# Altium integrated library Linear Technology Power Management uModule Regulators.IntLib: 166 symbols (part 10 of 67)
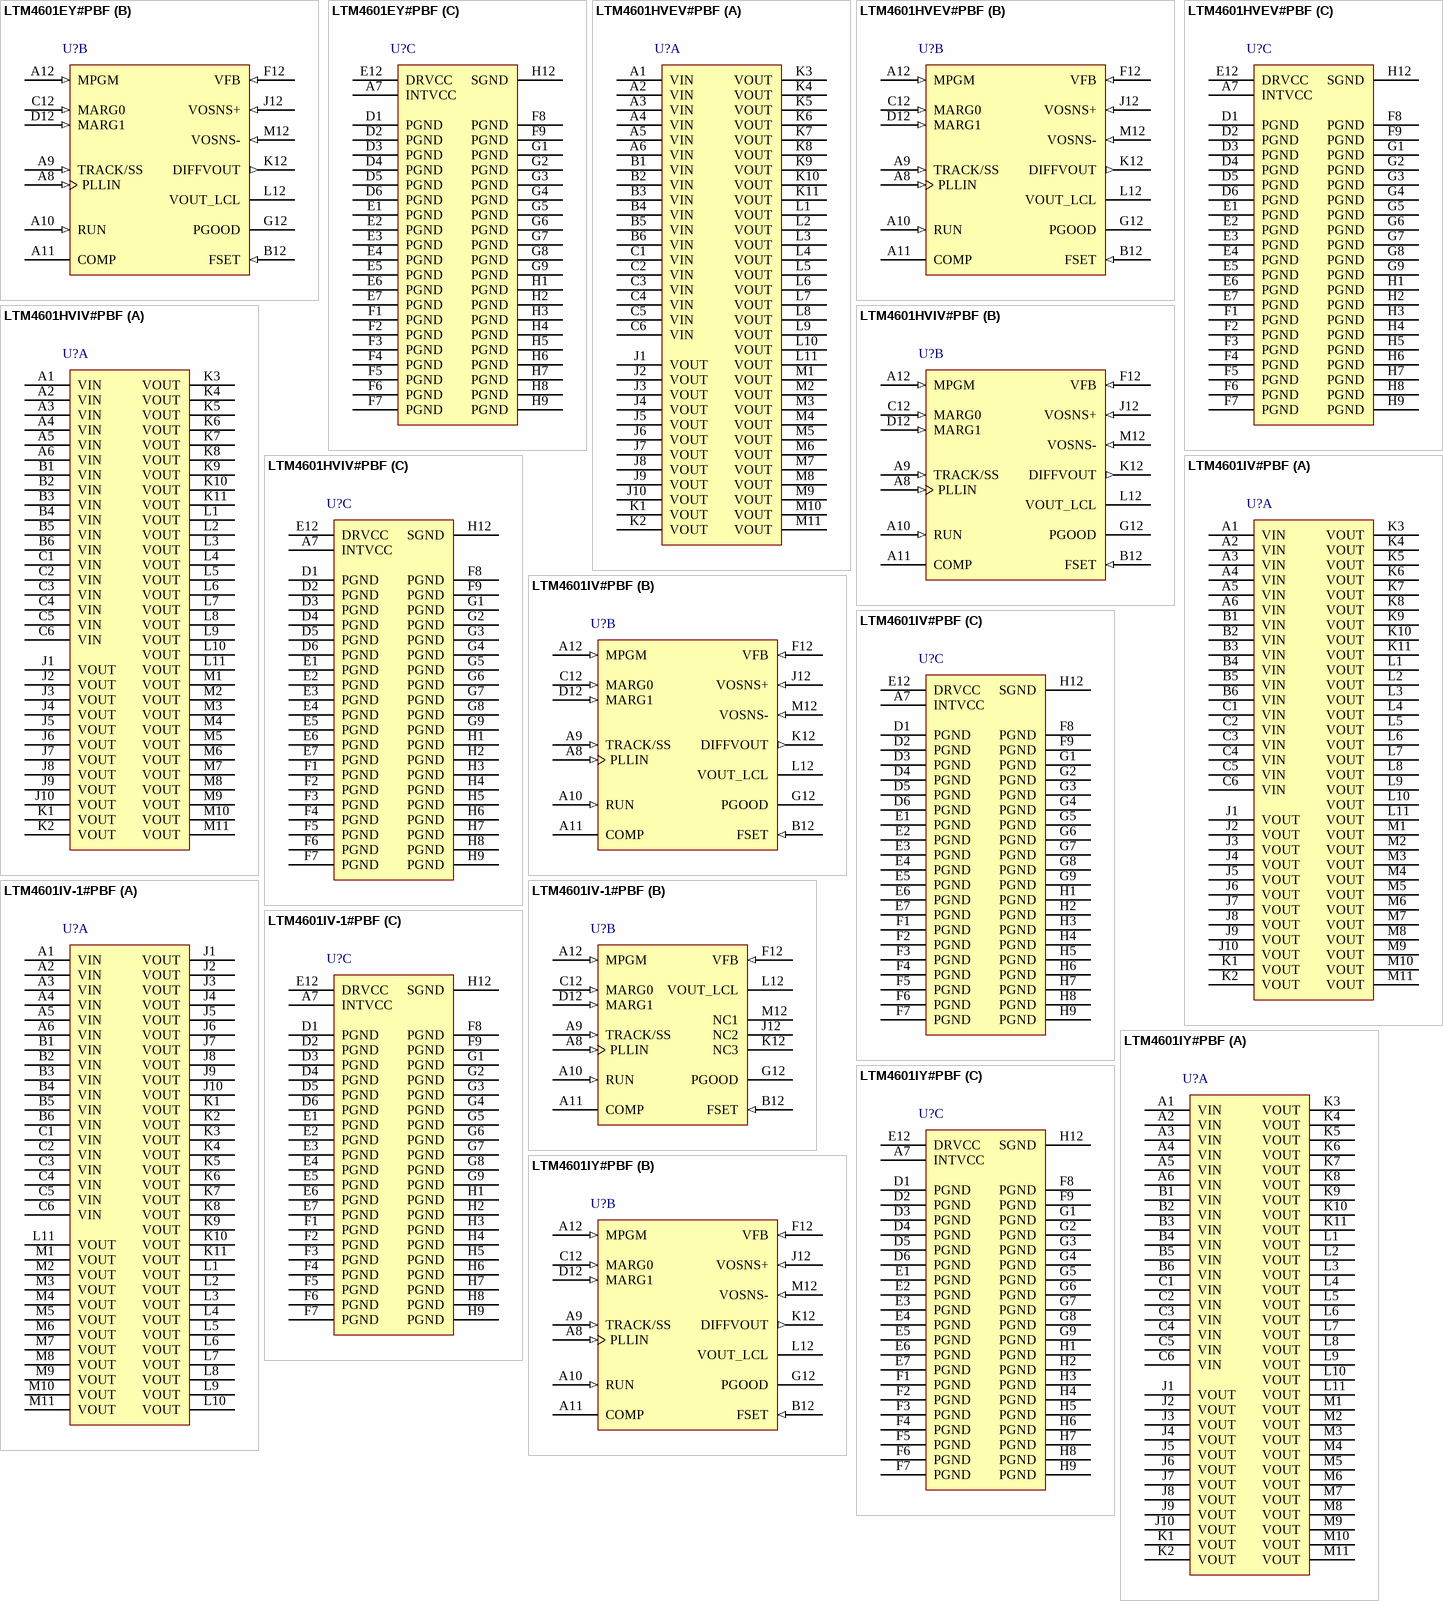
[diagram p36: symbols LTM4601EY#PBF to LTM4601IY#PBF]

## LTM4601EY#PBF
designator U?
12 A uModule Regulators with PLL, Output Tracking and Margining, 118-pin BGA, -40 to 85 degC, Pb-Free, Tray; Manufacturer: Linear Technology; PartNumber: LTM4601EY#PBF; Extended Temp: E, I; Frequency Sync Range: 600kHz - 1.1MHz; Ishutdown(uA): 22; Isupply(mA): 3.8; Number of Outputs: 1; Output Current(A): 12; Synchronous: yes; Topology: Buck; Vin Max(V): 20; Vin Min(V): 4.5; Vout Max(V): 5; Vout Min(V): 0.6; DatasheetVersion: Rev. C; PackageVersion: Rev. B, 01/2013; PackageReference: BGA-118; PackageDescription: 118-Ball BGA, Body 15 x 15 mm, Pitch 1.27 mm; Supplier 1: Digi-Key; Supplier Part Number 1: LTM4601EY#PBF-ND; Supplier 2: Farnell; Supplier Part Number 2: 2115878; Supplier 3: Newark; Supplier Part Number 3: 87T1006; Packing: Tray; RoHS: TRUE; Switch Current(A): 12; Tracking: yes; Mounting Technology: Surface Mount; Code_JEDEC: MS-028; ComponentLink1Description: Manufacturer URL; ComponentLink1URL: http://www.linear.com/; ComponentLink2Description: Datasheet; ComponentLink2URL: http://cds.linear.com/docs/en/datasheet/4601fc.pdf; ComponentLink3Description: Package Specification; ComponentLink3URL: http://cds.linear.com/docs/en/packaging/05081903_B_bga118.pdf
footprint LT-BGA-118-15000X15000X3420 (BGA, 118-Balls, Body 15x15mm, Pitch 1.27mm)
part A pins: A1 VIN (power) "Power Input Pins. Apply input voltage between these pins and PGND pins. Recommend placing input decoupling capacitance directly between VIN pins and PGND pins.", A2 VIN (power) "Power Input Pins. Apply input voltage between these pins and PGND pins. Recommend placing input decoupling capacitance directly between VIN pins and PGND pins.", A3 VIN (power) "Power Input Pins. Apply input voltage between these pins and PGND pins. Recommend placing input decoupling capacitance directly between VIN pins and PGND pins.", A4 VIN (power) "Power Input Pins. Apply input voltage between these pins and PGND pins. Recommend placing input decoupling capacitance directly between VIN pins and PGND pins.", A5 VIN (power) "Power Input Pins. Apply input voltage between these pins and PGND pins. Recommend placing input decoupling capacitance directly between VIN pins and PGND pins.", A6 VIN (power) "Power Input Pins. Apply input voltage between these pins and PGND pins. Recommend placing input decoupling capacitance directly between VIN pins and PGND pins.", B1 VIN (power) "Power Input Pins. Apply input voltage between these pins and PGND pins. Recommend placing input decoupling capacitance directly between VIN pins and PGND pins.", B2 VIN (power) "Power Input Pins. Apply input voltage between these pins and PGND pins. Recommend placing input decoupling capacitance directly between VIN pins and PGND pins.", B3 VIN (power) "Power Input Pins. Apply input voltage between these pins and PGND pins. Recommend placing input decoupling capacitance directly between VIN pins and PGND pins.", B4 VIN (power) "Power Input Pins. Apply input voltage between these pins and PGND pins. Recommend placing input decoupling capacitance directly between VIN pins and PGND pins.", B5 VIN (power) "Power Input Pins. Apply input voltage between these pins and PGND pins. Recommend placing input decoupling capacitance directly between VIN pins and PGND pins.", B6 VIN (power) "Power Input Pins. Apply input voltage between these pins and PGND pins. Recommend placing input decoupling capacitance directly between VIN pins and PGND pins.", C1 VIN (power) "Power Input Pins. Apply input voltage between these pins and PGND pins. Recommend placing input decoupling capacitance directly between VIN pins and PGND pins.", C2 VIN (power) "Power Input Pins. Apply input voltage between these pins and PGND pins. Recommend placing input decoupling capacitance directly between VIN pins and PGND pins.", C3 VIN (power) "Power Input Pins. Apply input voltage between these pins and PGND pins. Recommend placing input decoupling capacitance directly between VIN pins and PGND pins.", C4 VIN (power) "Power Input Pins. Apply input voltage between these pins and PGND pins. Recommend placing input decoupling capacitance directly between VIN pins and PGND pins.", C5 VIN (power) "Power Input Pins. Apply input voltage between these pins and PGND pins. Recommend placing input decoupling capacitance directly between VIN pins and PGND pins.", C6 VIN (power) "Power Input Pins. Apply input voltage between these pins and PGND pins. Recommend placing input decoupling capacitance directly between VIN pins and PGND pins.", J1 VOUT (power) "Power Output Pins. Apply output load between these pins and PGND pins. Recommend placing output decoupling capacitance directly between these pins and PGND pins. See Figure 15.", J2 VOUT (power) "Power Output Pins. Apply output load between these pins and PGND pins. Recommend placing output decoupling capacitance directly between these pins and PGND pins. See Figure 15.", J3 VOUT (power) "Power Output Pins. Apply output load between these pins and PGND pins. Recommend placing output decoupling capacitance directly between these pins and PGND pins. See Figure 15.", J4 VOUT (power) "Power Output Pins. Apply output load between these pins and PGND pins. Recommend placing output decoupling capacitance directly between these pins and PGND pins. See Figure 15.", J5 VOUT (power) "Power Output Pins. Apply output load between these pins and PGND pins. Recommend placing output decoupling capacitance directly between these pins and PGND pins. See Figure 15.", J6 VOUT (power) "Power Output Pins. Apply output load between these pins and PGND pins. Recommend placing output decoupling capacitance directly between these pins and PGND pins. See Figure 15.", J7 VOUT (power) "Power Output Pins. Apply output load between these pins and PGND pins. Recommend placing output decoupling capacitance directly between these pins and PGND pins. See Figure 15.", J8 VOUT (power) "Power Output Pins. Apply output load between these pins and PGND pins. Recommend placing output decoupling capacitance directly between these pins and PGND pins. See Figure 15.", J9 VOUT (power) "Power Output Pins. Apply output load between these pins and PGND pins. Recommend placing output decoupling capacitance directly between these pins and PGND pins. See Figure 15.", J10 VOUT (power) "Power Output Pins. Apply output load between these pins and PGND pins. Recommend placing output decoupling capacitance directly between these pins and PGND pins. See Figure 15.", K1 VOUT (power) "Power Output Pins. Apply output load between these pins and PGND pins. Recommend placing output decoupling capacitance directly between these pins and PGND pins. See Figure 15.", K2 VOUT (power) "Power Output Pins. Apply output load between these pins and PGND pins. Recommend placing output decoupling capacitance directly between these pins and PGND pins. See Figure 15.", K3 VOUT (power) "Power Output Pins. Apply output load between these pins and PGND pins. Recommend placing output decoupling capacitance directly between these pins and PGND pins. See Figure 15.", K4 VOUT (power) "Power Output Pins. Apply output load between these pins and PGND pins. Recommend placing output decoupling capacitance directly between these pins and PGND pins. See Figure 15.", K5 VOUT (power) "Power Output Pins. Apply output load between these pins and PGND pins. Recommend placing output decoupling capacitance directly between these pins and PGND pins. See Figure 15.", K6 VOUT (power) "Power Output Pins. Apply output load between these pins and PGND pins. Recommend placing output decoupling capacitance directly between these pins and PGND pins. See Figure 15.", K7 VOUT (power) "Power Output Pins. Apply output load between these pins and PGND pins. Recommend placing output decoupling capacitance directly between these pins and PGND pins. See Figure 15.", K8 VOUT (power) "Power Output Pins. Apply output load between these pins and PGND pins. Recommend placing output decoupling capacitance directly between these pins and PGND pins. See Figure 15.", K9 VOUT (power) "Power Output Pins. Apply output load between these pins and PGND pins. Recommend placing output decoupling capacitance directly between these pins and PGND pins. See Figure 15.", K10 VOUT (power) "Power Output Pins. Apply output load between these pins and PGND pins. Recommend placing output decoupling capacitance directly between these pins and PGND pins. See Figure 15.", K11 VOUT (power) "Power Output Pins. Apply output load between these pins and PGND pins. Recommend placing output decoupling capacitance directly between these pins and PGND pins. See Figure 15.", L1 VOUT (power) "Power Output Pins. Apply output load between these pins and PGND pins. Recommend placing output decoupling capacitance directly between these pins and PGND pins. See Figure 15.", L2 VOUT (power) "Power Output Pins. Apply output load between these pins and PGND pins. Recommend placing output decoupling capacitance directly between these pins and PGND pins. See Figure 15.", L3 VOUT (power) "Power Output Pins. Apply output load between these pins and PGND pins. Recommend placing output decoupling capacitance directly between these pins and PGND pins. See Figure 15.", L4 VOUT (power) "Power Output Pins. Apply output load between these pins and PGND pins. Recommend placing output decoupling capacitance directly between these pins and PGND pins. See Figure 15.", L5 VOUT (power) "Power Output Pins. Apply output load between these pins and PGND pins. Recommend placing output decoupling capacitance directly between these pins and PGND pins. See Figure 15.", L6 VOUT (power) "Power Output Pins. Apply output load between these pins and PGND pins. Recommend placing output decoupling capacitance directly between these pins and PGND pins. See Figure 15.", L7 VOUT (power) "Power Output Pins. Apply output load between these pins and PGND pins. Recommend placing output decoupling capacitance directly between these pins and PGND pins. See Figure 15.", L8 VOUT (power) "Power Output Pins. Apply output load between these pins and PGND pins. Recommend placing output decoupling capacitance directly between these pins and PGND pins. See Figure 15.", L9 VOUT (power) "Power Output Pins. Apply output load between these pins and PGND pins. Recommend placing output decoupling capacitance directly between these pins and PGND pins. See Figure 15.", L10 VOUT (power) "Power Output Pins. Apply output load between these pins and PGND pins. Recommend placing output decoupling capacitance directly between these pins and PGND pins. See Figure 15.", L11 VOUT (power) "Power Output Pins. Apply output load between these pins and PGND pins. Recommend placing output decoupling capacitance directly between these pins and PGND pins. See Figure 15.", M1 VOUT (power) "Power Output Pins. Apply output load between these pins and PGND pins. Recommend placing output decoupling capacitance directly between these pins and PGND pins. See Figure 15.", M2 VOUT (power) "Power Output Pins. Apply output load between these pins and PGND pins. Recommend placing output decoupling capacitance directly between these pins and PGND pins. See Figure 15.", M3 VOUT (power) "Power Output Pins. Apply output load between these pins and PGND pins. Recommend placing output decoupling capacitance directly between these pins and PGND pins. See Figure 15.", M4 VOUT (power) "Power Output Pins. Apply output load between these pins and PGND pins. Recommend placing output decoupling capacitance directly between these pins and PGND pins. See Figure 15.", M5 VOUT (power) "Power Output Pins. Apply output load between these pins and PGND pins. Recommend placing output decoupling capacitance directly between these pins and PGND pins. See Figure 15.", M6 VOUT (power) "Power Output Pins. Apply output load between these pins and PGND pins. Recommend placing output decoupling capacitance directly between these pins and PGND pins. See Figure 15.", M7 VOUT (power) "Power Output Pins. Apply output load between these pins and PGND pins. Recommend placing output decoupling capacitance directly between these pins and PGND pins. See Figure 15.", M8 VOUT (power) "Power Output Pins. Apply output load between these pins and PGND pins. Recommend placing output decoupling capacitance directly between these pins and PGND pins. See Figure 15.", M9 VOUT (power) "Power Output Pins. Apply output load between these pins and PGND pins. Recommend placing output decoupling capacitance directly between these pins and PGND pins. See Figure 15.", M10 VOUT (power) "Power Output Pins. Apply output load between these pins and PGND pins. Recommend placing output decoupling capacitance directly between these pins and PGND pins. See Figure 15.", M11 VOUT (power) "Power Output Pins. Apply output load between these pins and PGND pins. Recommend placing output decoupling capacitance directly between these pins and PGND pins. See Figure 15."
part B pins: A8 PLLIN (in) "External Clock Synchronization Input to the Phase Detector. This pin is internally terminated to SGND with a 50k resistor. Apply a clock with a high level above 2V and below INTVCC. See the Applications Information section.", A9 TRACK/SS (in) "Output Voltage Tracking and Soft- Start Pin. When the module is configured as a master output, then a soft-start capacitor is placed from this pin to ground to control the master ramp rate. A soft-start capacitor can also be (See Datasheet)", A10 RUN (in) "Run Control Pin. A voltage above 1.9V will turn on the module, and when below 1V, will turn off the module. A programmable UVLO function can be accomplished by connecting to a resistor divider from VIN to ground. See Figure (See Datasheet)", A11 COMP "Current Control Threshold and Error Amplifier Compensation Point. The current comparator threshold increases with this control voltage. The voltage ranges from 0V to 2.4V with 0.7V corresponding to zero sense voltage (zero (See Datasheet)", A12 MPGM (in) "Programmable Margining Input. A resistor from this pin to ground sets a current that is equal to 1.18V/R. This current multiplied by 10kohm will equal a value in millivolts that is a percentage of the 0.6V reference voltage. (See Datasheet)", B12 FSET (in) "Frequency Set Internally to 850kHz. An external resistor can be placed from this pin to ground to increase frequency. See the Applications Information section for frequency adjustment.", C12 MARG0 (in) "This pin is the LSB logic input for the margining function. Together with the MARG1 pin it will determine if margin high, margin low or no margin state is applied. The pin has an internal pull-down resistor of 50k. See the (See Datasheet)", D12 MARG1 (in) "This pin is the MSB logic input for the margining function. Together with the MARG0 pin it will determine if margin high, margin low or no margin state is applied. The pin has an internal pull-down resistor of 50k. See the (See Datasheet)", F12 VFB (in) "The Negative Input of the Error Amplifier. Internally, this pin is connected to VOUT_LCL pin with a 60.4k precision resistor. Different output voltages can be programmed with an additional resistor between VFB and SGND pins. (See Datasheet)", G12 PGOOD (oc) "Output Voltage Power Good Indicator. Open-drain logic output that is pulled to ground when the output voltage is not within +/-10% of the regulation point, after a 25us power bad mask timer expires.", J12 VOSNS+ (in) "(+) Input to the Remote Sense Amplifier. This pin connects to the output remote sense point. The remote sense amplifier is used for VOUT =<3.3V. Tie to ground if not used.", K12 DIFFVOUT (out) "Output of the Remote Sense Amplifier. This pin connects to the VOUT_LCL pin. Leave floating if not used", L12 VOUT_LCL "VOUT connects directly to this pin to bypass the remote sense amplifier, or DIFFVOUT connects to this pin when the remote sense amplifier is used. VOUT_LCL can be connected to VOUT on the LTM4601-1, VOUT is internally (See Datasheet)", M12 VOSNS- (in) "(-) Input to the Remote Sense Amplifier. This pin connects to the ground remote sense point. The remote sense amplifier is used for VOUT =<3.3V. Tie to INTVCC if not used."
part C pins: A7 INTVCC (power) "This pin is for additional decoupling of the 5V internal regulator.", D1 PGND (power) "Power ground pins for both input and output returns.", D2 PGND (power) "Power ground pins for both input and output returns.", D3 PGND (power) "Power ground pins for both input and output returns.", D4 PGND (power) "Power ground pins for both input and output returns.", D5 PGND (power) "Power ground pins for both input and output returns.", D6 PGND (power) "Power ground pins for both input and output returns.", E1 PGND (power) "Power ground pins for both input and output returns.", E2 PGND (power) "Power ground pins for both input and output returns.", E3 PGND (power) "Power ground pins for both input and output returns.", E4 PGND (power) "Power ground pins for both input and output returns.", E5 PGND (power) "Power ground pins for both input and output returns.", E6 PGND (power) "Power ground pins for both input and output returns.", E7 PGND (power) "Power ground pins for both input and output returns.", E12 DRVCC (power) "This pin normally connects to INTVCC for powering the internal MOSFET drivers. This pin can be biased up to 6V from an external supply with about 50mA capability, or an external circuit as shown in Figure 16. This improves (See Datasheet)", F1 PGND (power) "Power ground pins for both input and output returns.", F2 PGND (power) "Power ground pins for both input and output returns.", F3 PGND (power) "Power ground pins for both input and output returns.", F4 PGND (power) "Power ground pins for both input and output returns.", F5 PGND (power) "Power ground pins for both input and output returns.", F6 PGND (power) "Power ground pins for both input and output returns.", F7 PGND (power) "Power ground pins for both input and output returns.", F8 PGND (power) "Power ground pins for both input and output returns.", F9 PGND (power) "Power ground pins for both input and output returns.", G1 PGND (power) "Power ground pins for both input and output returns.", G2 PGND (power) "Power ground pins for both input and output returns.", G3 PGND (power) "Power ground pins for both input and output returns.", G4 PGND (power) "Power ground pins for both input and output returns.", G5 PGND (power) "Power ground pins for both input and output returns.", G6 PGND (power) "Power ground pins for both input and output returns.", G7 PGND (power) "Power ground pins for both input and output returns.", G8 PGND (power) "Power ground pins for both input and output returns.", G9 PGND (power) "Power ground pins for both input and output returns.", H1 PGND (power) "Power ground pins for both input and output returns.", H2 PGND (power) "Power ground pins for both input and output returns.", H3 PGND (power) "Power ground pins for both input and output returns.", H4 PGND (power) "Power ground pins for both input and output returns.", H5 PGND (power) "Power ground pins for both input and output returns.", H6 PGND (power) "Power ground pins for both input and output returns.", H7 PGND (power) "Power ground pins for both input and output returns.", H8 PGND (power) "Power ground pins for both input and output returns.", H9 PGND (power) "Power ground pins for both input and output returns.", H12 SGND (power) "Signal Ground. This pin connects to PGND at output capacitor point. See Figure 15."

## LTM4601HVEV#PBF
designator U?
12 A, 28 VIN DC/DC uModule Regulator with PLL, Output Tracking and Margining, 118-pin LGA, -40 to 85 degC, Pb-Free, Tray; Manufacturer: Linear Technology; PartNumber: LTM4601HVEV#PBF; Extended Temp: E, I; Frequency Sync Range: 600kHz - 1.1MHz; Ishutdown(uA): 22; Isupply(mA): 3.8; Number of Outputs: 1; Output Current(A): 12; Synchronous: yes; Topology: Buck; Vin Max(V): 28; Vin Min(V): 4.5; Vout Max(V): 5; Vout Min(V): 0.6; DatasheetVersion: Rev. B; PackageVersion: Rev. B, 01/2013; PackageReference: LGA-118; PackageDescription: 118-Pin LGA, Body 15 x 15 mm, Pitch 1.27 mm; Supplier 1: Digi-Key; Supplier Part Number 1: LTM4601HVEV#PBF-ND; Supplier 2: Farnell; Supplier Part Number 2: 1710880; Supplier 3: Newark; Supplier Part Number 3: 57M0657; Packing: Tray; RoHS: TRUE; Switch Current(A): 12; Tracking: yes; Mounting Technology: Surface Mount; Code_JEDEC: MO-222; ComponentLink1Description: Manufacturer URL; ComponentLink1URL: http://www.linear.com/; ComponentLink2Description: Datasheet; ComponentLink2URL: http://cds.linear.com/docs/en/datasheet/4601hvfb.pdf; ComponentLink3Description: Package Specification; ComponentLink3URL: http://cds.linear.com/docs/en/packaging/05081801_B_lga118.pdf
footprint LT-LGA-118-15000X15000_V (LGA, 118-Leads, Body 15x15mm, 1.27mm)
part A pins: A1 VIN (power) "Power Input Pins. Apply input voltage between these pins and PGND pins. Recommend placing input decoupling capacitance directly between VIN pins and PGND pins.", A2 VIN (power) "Power Input Pins. Apply input voltage between these pins and PGND pins. Recommend placing input decoupling capacitance directly between VIN pins and PGND pins.", A3 VIN (power) "Power Input Pins. Apply input voltage between these pins and PGND pins. Recommend placing input decoupling capacitance directly between VIN pins and PGND pins.", A4 VIN (power) "Power Input Pins. Apply input voltage between these pins and PGND pins. Recommend placing input decoupling capacitance directly between VIN pins and PGND pins.", A5 VIN (power) "Power Input Pins. Apply input voltage between these pins and PGND pins. Recommend placing input decoupling capacitance directly between VIN pins and PGND pins.", A6 VIN (power) "Power Input Pins. Apply input voltage between these pins and PGND pins. Recommend placing input decoupling capacitance directly between VIN pins and PGND pins.", B1 VIN (power) "Power Input Pins. Apply input voltage between these pins and PGND pins. Recommend placing input decoupling capacitance directly between VIN pins and PGND pins.", B2 VIN (power) "Power Input Pins. Apply input voltage between these pins and PGND pins. Recommend placing input decoupling capacitance directly between VIN pins and PGND pins.", B3 VIN (power) "Power Input Pins. Apply input voltage between these pins and PGND pins. Recommend placing input decoupling capacitance directly between VIN pins and PGND pins.", B4 VIN (power) "Power Input Pins. Apply input voltage between these pins and PGND pins. Recommend placing input decoupling capacitance directly between VIN pins and PGND pins.", B5 VIN (power) "Power Input Pins. Apply input voltage between these pins and PGND pins. Recommend placing input decoupling capacitance directly between VIN pins and PGND pins.", B6 VIN (power) "Power Input Pins. Apply input voltage between these pins and PGND pins. Recommend placing input decoupling capacitance directly between VIN pins and PGND pins.", C1 VIN (power) "Power Input Pins. Apply input voltage between these pins and PGND pins. Recommend placing input decoupling capacitance directly between VIN pins and PGND pins.", C2 VIN (power) "Power Input Pins. Apply input voltage between these pins and PGND pins. Recommend placing input decoupling capacitance directly between VIN pins and PGND pins.", C3 VIN (power) "Power Input Pins. Apply input voltage between these pins and PGND pins. Recommend placing input decoupling capacitance directly between VIN pins and PGND pins.", C4 VIN (power) "Power Input Pins. Apply input voltage between these pins and PGND pins. Recommend placing input decoupling capacitance directly between VIN pins and PGND pins.", C5 VIN (power) "Power Input Pins. Apply input voltage between these pins and PGND pins. Recommend placing input decoupling capacitance directly between VIN pins and PGND pins.", C6 VIN (power) "Power Input Pins. Apply input voltage between these pins and PGND pins. Recommend placing input decoupling capacitance directly between VIN pins and PGND pins.", J1 VOUT (power) "Power Output Pins. Apply output load between these pins and PGND pins. Recommend placing output decoupling capacitance directly between these pins and PGND pins. See Figure 17.", J2 VOUT (power) "Power Output Pins. Apply output load between these pins and PGND pins. Recommend placing output decoupling capacitance directly between these pins and PGND pins. See Figure 17.", J3 VOUT (power) "Power Output Pins. Apply output load between these pins and PGND pins. Recommend placing output decoupling capacitance directly between these pins and PGND pins. See Figure 17.", J4 VOUT (power) "Power Output Pins. Apply output load between these pins and PGND pins. Recommend placing output decoupling capacitance directly between these pins and PGND pins. See Figure 17.", J5 VOUT (power) "Power Output Pins. Apply output load between these pins and PGND pins. Recommend placing output decoupling capacitance directly between these pins and PGND pins. See Figure 17.", J6 VOUT (power) "Power Output Pins. Apply output load between these pins and PGND pins. Recommend placing output decoupling capacitance directly between these pins and PGND pins. See Figure 17.", J7 VOUT (power) "Power Output Pins. Apply output load between these pins and PGND pins. Recommend placing output decoupling capacitance directly between these pins and PGND pins. See Figure 17.", J8 VOUT (power) "Power Output Pins. Apply output load between these pins and PGND pins. Recommend placing output decoupling capacitance directly between these pins and PGND pins. See Figure 17.", J9 VOUT (power) "Power Output Pins. Apply output load between these pins and PGND pins. Recommend placing output decoupling capacitance directly between these pins and PGND pins. See Figure 17.", J10 VOUT (power) "Power Output Pins. Apply output load between these pins and PGND pins. Recommend placing output decoupling capacitance directly between these pins and PGND pins. See Figure 17.", K1 VOUT (power) "Power Output Pins. Apply output load between these pins and PGND pins. Recommend placing output decoupling capacitance directly between these pins and PGND pins. See Figure 17.", K2 VOUT (power) "Power Output Pins. Apply output load between these pins and PGND pins. Recommend placing output decoupling capacitance directly between these pins and PGND pins. See Figure 17.", K3 VOUT (power) "Power Output Pins. Apply output load between these pins and PGND pins. Recommend placing output decoupling capacitance directly between these pins and PGND pins. See Figure 17.", K4 VOUT (power) "Power Output Pins. Apply output load between these pins and PGND pins. Recommend placing output decoupling capacitance directly between these pins and PGND pins. See Figure 17.", K5 VOUT (power) "Power Output Pins. Apply output load between these pins and PGND pins. Recommend placing output decoupling capacitance directly between these pins and PGND pins. See Figure 17.", K6 VOUT (power) "Power Output Pins. Apply output load between these pins and PGND pins. Recommend placing output decoupling capacitance directly between these pins and PGND pins. See Figure 17.", K7 VOUT (power) "Power Output Pins. Apply output load between these pins and PGND pins. Recommend placing output decoupling capacitance directly between these pins and PGND pins. See Figure 17.", K8 VOUT (power) "Power Output Pins. Apply output load between these pins and PGND pins. Recommend placing output decoupling capacitance directly between these pins and PGND pins. See Figure 17.", K9 VOUT (power) "Power Output Pins. Apply output load between these pins and PGND pins. Recommend placing output decoupling capacitance directly between these pins and PGND pins. See Figure 17.", K10 VOUT (power) "Power Output Pins. Apply output load between these pins and PGND pins. Recommend placing output decoupling capacitance directly between these pins and PGND pins. See Figure 17.", K11 VOUT (power) "Power Output Pins. Apply output load between these pins and PGND pins. Recommend placing output decoupling capacitance directly between these pins and PGND pins. See Figure 17.", L1 VOUT (power) "Power Output Pins. Apply output load between these pins and PGND pins. Recommend placing output decoupling capacitance directly between these pins and PGND pins. See Figure 17.", L2 VOUT (power) "Power Output Pins. Apply output load between these pins and PGND pins. Recommend placing output decoupling capacitance directly between these pins and PGND pins. See Figure 17.", L3 VOUT (power) "Power Output Pins. Apply output load between these pins and PGND pins. Recommend placing output decoupling capacitance directly between these pins and PGND pins. See Figure 17.", L4 VOUT (power) "Power Output Pins. Apply output load between these pins and PGND pins. Recommend placing output decoupling capacitance directly between these pins and PGND pins. See Figure 17.", L5 VOUT (power) "Power Output Pins. Apply output load between these pins and PGND pins. Recommend placing output decoupling capacitance directly between these pins and PGND pins. See Figure 17.", L6 VOUT (power) "Power Output Pins. Apply output load between these pins and PGND pins. Recommend placing output decoupling capacitance directly between these pins and PGND pins. See Figure 17.", L7 VOUT (power) "Power Output Pins. Apply output load between these pins and PGND pins. Recommend placing output decoupling capacitance directly between these pins and PGND pins. See Figure 17.", L8 VOUT (power) "Power Output Pins. Apply output load between these pins and PGND pins. Recommend placing output decoupling capacitance directly between these pins and PGND pins. See Figure 17.", L9 VOUT (power) "Power Output Pins. Apply output load between these pins and PGND pins. Recommend placing output decoupling capacitance directly between these pins and PGND pins. See Figure 17.", L10 VOUT (power) "Power Output Pins. Apply output load between these pins and PGND pins. Recommend placing output decoupling capacitance directly between these pins and PGND pins. See Figure 17.", L11 VOUT (power) "Power Output Pins. Apply output load between these pins and PGND pins. Recommend placing output decoupling capacitance directly between these pins and PGND pins. See Figure 17.", M1 VOUT (power) "Power Output Pins. Apply output load between these pins and PGND pins. Recommend placing output decoupling capacitance directly between these pins and PGND pins. See Figure 17.", M2 VOUT (power) "Power Output Pins. Apply output load between these pins and PGND pins. Recommend placing output decoupling capacitance directly between these pins and PGND pins. See Figure 17.", M3 VOUT (power) "Power Output Pins. Apply output load between these pins and PGND pins. Recommend placing output decoupling capacitance directly between these pins and PGND pins. See Figure 17.", M4 VOUT (power) "Power Output Pins. Apply output load between these pins and PGND pins. Recommend placing output decoupling capacitance directly between these pins and PGND pins. See Figure 17.", M5 VOUT (power) "Power Output Pins. Apply output load between these pins and PGND pins. Recommend placing output decoupling capacitance directly between these pins and PGND pins. See Figure 17.", M6 VOUT (power) "Power Output Pins. Apply output load between these pins and PGND pins. Recommend placing output decoupling capacitance directly between these pins and PGND pins. See Figure 17.", M7 VOUT (power) "Power Output Pins. Apply output load between these pins and PGND pins. Recommend placing output decoupling capacitance directly between these pins and PGND pins. See Figure 17.", M8 VOUT (power) "Power Output Pins. Apply output load between these pins and PGND pins. Recommend placing output decoupling capacitance directly between these pins and PGND pins. See Figure 17.", M9 VOUT (power) "Power Output Pins. Apply output load between these pins and PGND pins. Recommend placing output decoupling capacitance directly between these pins and PGND pins. See Figure 17.", M10 VOUT (power) "Power Output Pins. Apply output load between these pins and PGND pins. Recommend placing output decoupling capacitance directly between these pins and PGND pins. See Figure 17.", M11 VOUT (power) "Power Output Pins. Apply output load between these pins and PGND pins. Recommend placing output decoupling capacitance directly between these pins and PGND pins. See Figure 17."
part B pins: A8 PLLIN (in) "External Clock Synchronization Input to the Phase Detector. This pin is internally terminated to SGND with a 50k resistor. Apply a clock with a high level above 2V and below INTVCC. See the Applications Information section.", A9 TRACK/SS (in) "Output Voltage Tracking and Soft- Start Pin. When the module is configured as a master output, then a soft-start capacitor is placed from this pin to ground to control the master ramp rate. A soft-start capacitor can also be (See Datasheet)", A10 RUN (in) "Run Control Pin. A voltage above 1.9V will turn on the module, and when below 1V, will turn off the module. A programmable UVLO function can be accomplished by connecting to a resistor divider from VIN to ground. See Figure (See Datasheet)", A11 COMP "Current Control Threshold and Error Amplifier Compensation Point. The current comparator threshold increases with this control voltage. The voltage ranges from 0V to 2.4V with 0.7V corresponding to zero sense voltage (zero (See Datasheet)", A12 MPGM (in) "Programmable Margining Input. A resistor from this pin to ground sets a current that is equal to 1.18V/R. This current multiplied by 10kohm will equal a value in millivolts that is a percentage of the 0.6V reference voltage. (See Datasheet)", B12 FSET (in) "Frequency Set Internally to 850kHz. An external resistor can be placed from this pin to ground to increase frequency. See the Applications Information section for frequency adjustment.", C12 MARG0 (in) "This pin is the LSB logic input for the margining function. Together with the MARG1 pin it will determine if margin high, margin low or no margin state is applied. The pin has an internal pull-down resistor of 50k. See the (See Datasheet)", D12 MARG1 (in) "This pin is the MSB logic input for the margining function. Together with the MARG0 pin it will determine if margin high, margin low or no margin state is applied. The pin has an internal pull-down resistor of 50k. See the (See Datasheet)", F12 VFB (in) "The Negative Input of the Error Amplifier. Internally, this pin is connected to VOUT_LCL pin with a 60.4k precision resistor. Different output voltages can be programmed with an additional resistor between VFB and SGND pins. (See Datasheet)", G12 PGOOD (oc) "Output Voltage Power Good Indicator. Open-drain logic output that is pulled to ground when the output voltage is not within +/-10% of the regulation point, after a 25us power bad mask timer expires.", J12 VOSNS+ (in) "(+) Input to the Remote Sense Amplifier.This pin connects to the output remote sense point. The remote sense amplifier is used for VOUT =<3.3V. Tie to ground if not used.", K12 DIFFVOUT (out) "Output of the Remote Sense Amplifier. This pin connects to the VOUT_LCL pin. Leave floating if not used", L12 VOUT_LCL "VOUT connects directly to this pin to bypass the remote sense amplifier, or DIFFVOUT connects to this pin when remote sense amplifier is used", M12 VOSNS- (in) "(-) Input to the Remote Sense Amplifier. This pin connects to the ground remote sense point. The remote sense amplifier is used for VOUT =<3.3V. Tie to INTVCC if not used."
part C pins: A7 INTVCC (power) "This pin is for additional decoupling of the 5V internal regulator.", D1 PGND (power) "Power ground pins for both input and output returns.", D2 PGND (power) "Power ground pins for both input and output returns.", D3 PGND (power) "Power ground pins for both input and output returns.", D4 PGND (power) "Power ground pins for both input and output returns.", D5 PGND (power) "Power ground pins for both input and output returns.", D6 PGND (power) "Power ground pins for both input and output returns.", E1 PGND (power) "Power ground pins for both input and output returns.", E2 PGND (power) "Power ground pins for both input and output returns.", E3 PGND (power) "Power ground pins for both input and output returns.", E4 PGND (power) "Power ground pins for both input and output returns.", E5 PGND (power) "Power ground pins for both input and output returns.", E6 PGND (power) "Power ground pins for both input and output returns.", E7 PGND (power) "Power ground pins for both input and output returns.", E12 DRVCC (power) "This pin normally connects to INTVCC for powering the internal MOSFET drivers. This pin can be biased up to 6V from an external supply with about 50mA capability, or an external circuit as shown in Figure 18. This improves (See Datasheet)", F1 PGND (power) "Power ground pins for both input and output returns.", F2 PGND (power) "Power ground pins for both input and output returns.", F3 PGND (power) "Power ground pins for both input and output returns.", F4 PGND (power) "Power ground pins for both input and output returns.", F5 PGND (power) "Power ground pins for both input and output returns.", F6 PGND (power) "Power ground pins for both input and output returns.", F7 PGND (power) "Power ground pins for both input and output returns.", F8 PGND (power) "Power ground pins for both input and output returns.", F9 PGND (power) "Power ground pins for both input and output returns.", G1 PGND (power) "Power ground pins for both input and output returns.", G2 PGND (power) "Power ground pins for both input and output returns.", G3 PGND (power) "Power ground pins for both input and output returns.", G4 PGND (power) "Power ground pins for both input and output returns.", G5 PGND (power) "Power ground pins for both input and output returns.", G6 PGND (power) "Power ground pins for both input and output returns.", G7 PGND (power) "Power ground pins for both input and output returns.", G8 PGND (power) "Power ground pins for both input and output returns.", G9 PGND (power) "Power ground pins for both input and output returns.", H1 PGND (power) "Power ground pins for both input and output returns.", H2 PGND (power) "Power ground pins for both input and output returns.", H3 PGND (power) "Power ground pins for both input and output returns.", H4 PGND (power) "Power ground pins for both input and output returns.", H5 PGND (power) "Power ground pins for both input and output returns.", H6 PGND (power) "Power ground pins for both input and output returns.", H7 PGND (power) "Power ground pins for both input and output returns.", H8 PGND (power) "Power ground pins for both input and output returns.", H9 PGND (power) "Power ground pins for both input and output returns.", H12 SGND (power) "Signal Ground. This pin connects to PGND at output capacitor point. See Figure 17."